# Altium footprint library CONNECTOR.PcbLib: 21 footprints (part 1 of 2)
Each footprint in its own frame and in the unit in brackets; x right, y up, seen from the top. Pads: shape width x height; smd on the part's side, far side on the other; paste and mask are expansions set on the pad; w line width, h text height; cw(c..) or ccw(c..) is an arc to the next point about the centre after c.
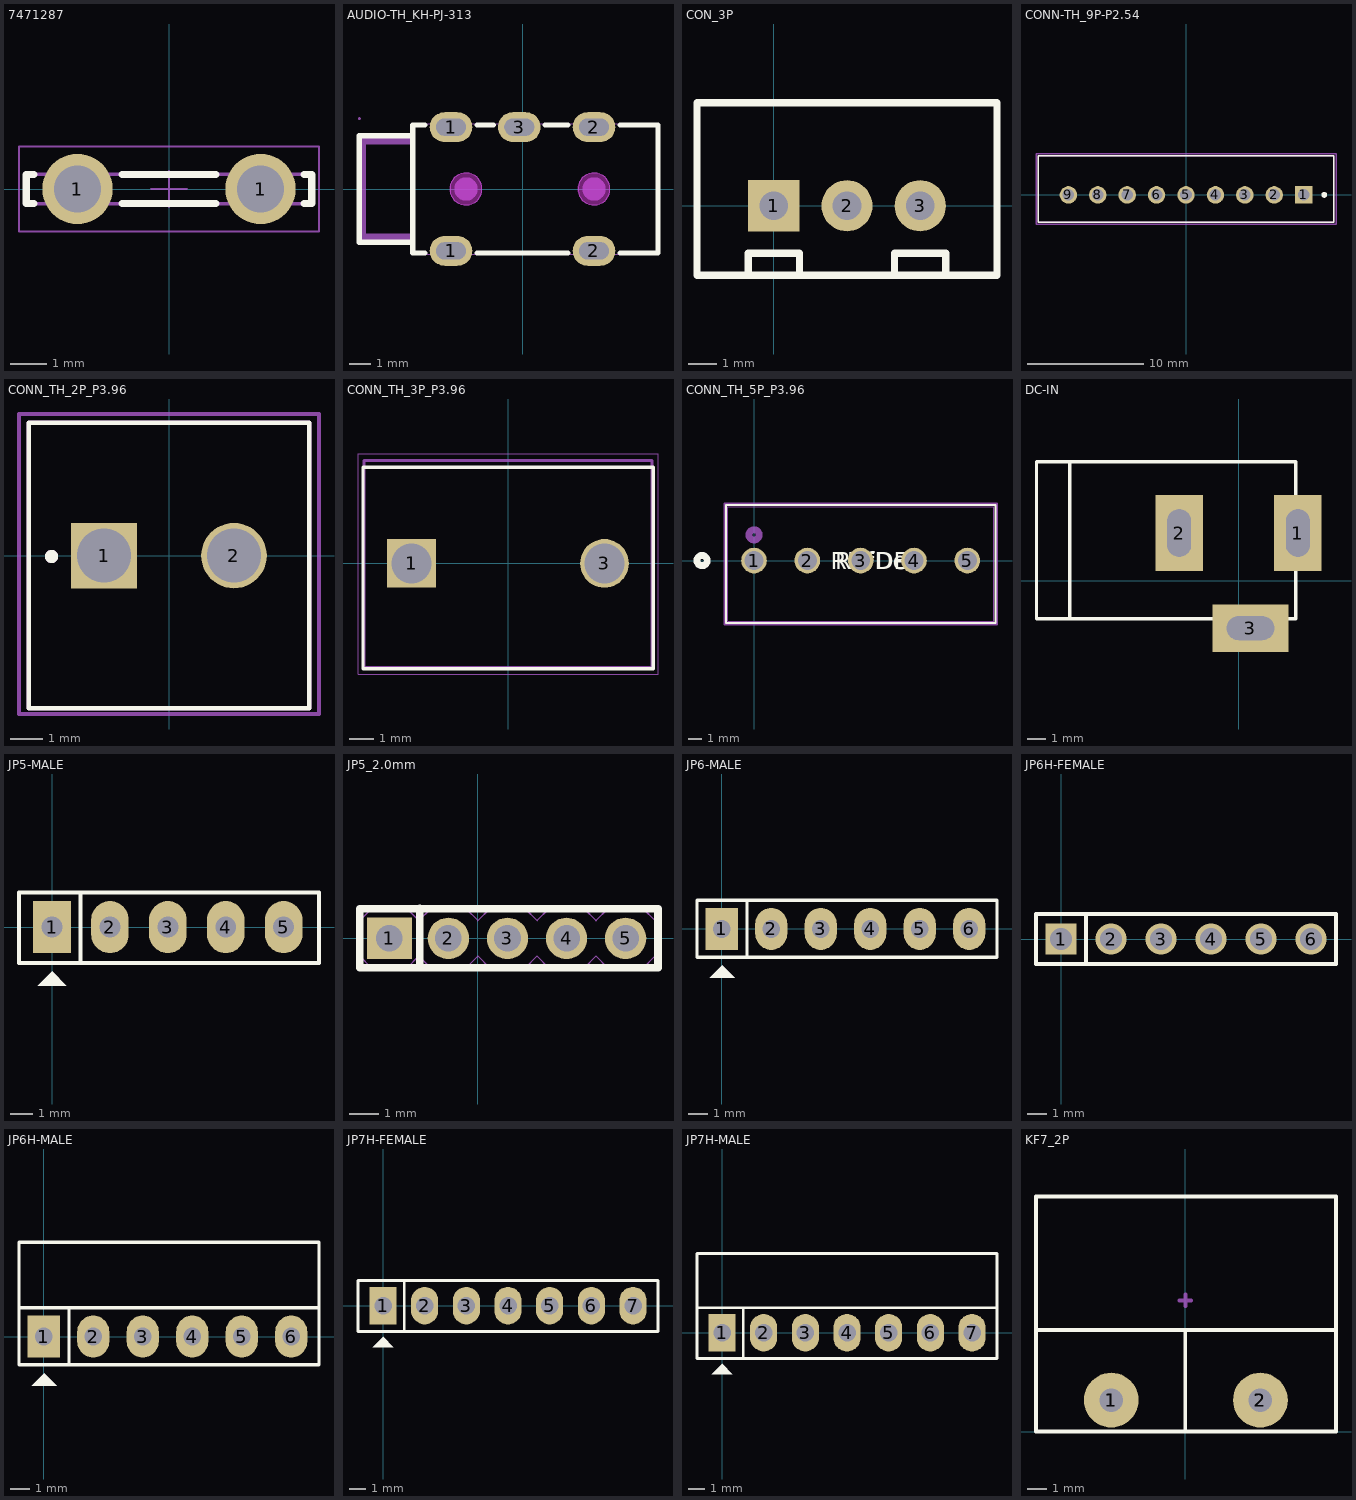
[diagram p0: the footprints below, top view; thin cyan lines are the x and y axes]

## 7471287 [mm] "Mounting Tabs & Tubular Cable Lugs"
height 10.21
pads (2):
  round 1.95 hole 1.3: 1(-2.54,0) 1(2.54,0)
Top Overlay:
  lines w0.2: -3.75,-0.405 -3.96,-0.405 -3.96,0.405 -3.75,0.405 ; -1.3,-0.405 1.3,-0.405 ; -1.3,0.405 1.3,0.405 ; 3.75,-0.405 3.96,-0.405 3.96,0.405 3.75,0.405
Mechanical 13:
  lines w0.1: -3.96,-0.405 3.96,-0.405 3.96,0.405 -3.96,0.405 -3.96,-0.405
Mechanical 15:
  lines w0.05: -0.5,0 0.5,0 ; 0,-0.5 0,0.5 ; -4.16,-1.175 -4.16,1.175 4.16,1.175 4.16,-1.175 -4.16,-1.175
  lines w0.1: -3.96,-0.405 -3.96,0.405 3.96,0.405 3.96,-0.405 -3.96,-0.405
Mechanical 29:
  text "'.Designator'" at -2.832,-0.208 h0.5
3D body "7471287.stp": height 10.27, standoff -3.75, extent -3.96,-0.405 3.96,0.405

## AUDIO-TH_KH-PJ-313 [mm]
pads (5):
  oval 2x1.4 hole 0.8 slot 1.4 at 0 deg: 1(-3.35,-2.9) 1(-3.35,2.9) 2(3.35,-2.9) 2(3.35,2.9) 3(-0.15,2.9)
Top Overlay:
  lines w0.254: -5.15,2.487 -5.15,2.5 -7.65,2.5 -7.65,-2.5 -5.15,-2.5 ; -4.569,-3 -5.15,-3 -5.15,-2.5 ; -4.569,3 -5.15,3 -5.15,-2.5 ; -2.131,-3 2.131,-3 ; -2.131,3 -1.369,3 ; 1.069,3 2.131,3 ; 4.569,-3 6.349,-3 6.349,3 6.001,3 ; 4.569,3 6,3
Keep-Out Layer:
  board cut-out: 4.1,0 4.1,-0.099 4.049,-0.289 3.95,-0.46 3.811,-0.6 3.639,-0.699 3.449,-0.75 3.251,-0.75 3.061,-0.699 2.889,-0.6 2.75,-0.46 2.651,-0.289 2.6,-0.099 2.6,0 2.6,0.099 2.651,0.29 2.75,0.461 2.889,0.6 3.061,0.699 3.251,0.75 3.449,0.75 3.639,0.699 3.811,0.6 3.95,0.461 4.049,0.29 4.1,0.099
  board cut-out: -1.9,0 -1.9,-0.099 -1.951,-0.289 -2.05,-0.46 -2.189,-0.6 -2.36,-0.699 -2.551,-0.75 -2.749,-0.75 -2.939,-0.699 -3.11,-0.6 -3.25,-0.46 -3.349,-0.289 -3.4,-0.099 -3.4,0 -3.4,0.099 -3.349,0.29 -3.25,0.461 -3.11,0.6 -2.939,0.699 -2.749,0.75 -2.551,0.75 -2.36,0.699 -2.189,0.6 -2.05,0.461 -1.951,0.29 -1.9,0.099
Keep-Out Layer:
  circle w0.025: c3.35,0 r0.75
  circle w0.025: c-2.65,0 r0.75
  region: 4.1,0 4.1,-0.099 4.049,-0.289 3.95,-0.46 3.811,-0.6 3.639,-0.699 3.449,-0.75 3.251,-0.75 3.061,-0.699 2.889,-0.6 2.75,-0.46 2.651,-0.289 2.6,-0.099 2.6,0 2.6,0.099 2.651,0.29 2.75,0.461 2.889,0.6 3.061,0.699 3.251,0.75 3.449,0.75 3.639,0.699 3.811,0.6 3.95,0.461 4.049,0.29 4.1,0.099
  region: -1.9,0 -1.9,-0.099 -1.951,-0.289 -2.05,-0.46 -2.189,-0.6 -2.36,-0.699 -2.551,-0.75 -2.749,-0.75 -2.939,-0.699 -3.11,-0.6 -3.25,-0.46 -3.349,-0.289 -3.4,-0.099 -3.4,0 -3.4,0.099 -3.349,0.29 -3.25,0.461 -3.11,0.6 -2.939,0.699 -2.749,0.75 -2.551,0.75 -2.36,0.699 -2.189,0.6 -2.05,0.461 -1.951,0.29 -1.9,0.099
Mechanical 15:
  region: 0.35,3.025 0.35,2.775 -0.65,2.775 -0.65,3.025
  region: 3.85,3.025 3.85,2.775 2.85,2.775 2.85,3.025
  region: 3.85,-2.775 3.85,-3.025 2.85,-3.025 2.85,-2.775
  region: -2.85,-2.775 -2.85,-3.025 -3.85,-3.025 -3.85,-2.775
  region: -2.85,3.025 -2.85,2.775 -3.85,2.775 -3.85,3.025
  region: -7.59,3.3 -7.59,3.275 -7.625,3.24 -7.675,3.24 -7.71,3.275 -7.71,3.3 -7.71,3.325 -7.675,3.36 -7.625,3.36 -7.59,3.325
  lines w0.051: -7.65,-2.5 -7.65,2.5 -5.15,2.5 -5.15,3.05 6.35,3.05 6.35,-3.05 -5.15,-3.05 -5.15,-2.5 -7.65,-2.5
Mechanical 29:
  circle w0.55: c3.35,0 r0.275
  circle w0.55: c-2.65,0 r0.275
  circle w0.025: c3.35,0 r0.75
  circle w0.025: c-2.65,0 r0.75
  region: -5.15,2.506 -7.65,2.506 -7.65,2.5 -7.65,-2.5 -5.15,-2.5 -5.15,-2.094 -7.35,-2.094 -7.35,2.106 -5.15,2.106
  text "'.Designator'" at -7.239,-0.381 h1.52
3D body "XB-PJ35A080-F05J1BR-C.stp": height 6.4, standoff -0.4, extent -7.642,-3.524 6.958,3.27

## CON_3P [mil]
pads (3):
  rect 70x70 hole 39.37 unplated: 1(0,0)
  round 70 hole 39.37 unplated: 2(100,0) 3(200,0)
Top Overlay:
  lines w10: -35,-95 -35,-65 35,-65 35,-95 ; 165,-95 165,-65 235,-65 235,-95 ; -105,-95 305,-95 305,141 -105,141 -105,-95
Mechanical 15:
  lines w2.01: -35,-95 -35,-65 35,-65 35,-95 ; 165,-95 165,-65 235,-65 235,-95 ; -105,-95 305,-95 305,141 -105,141 -105,-95
Mechanical 29:
  text "'.Designator'" at -65,4.99 h60
3D body "User Library-PW10-XX-M whitePW10-3M.STEP": height 275.59, standoff -129.92, extent -96.85,-90 296.85,134.41

## CONN-TH_9P-P2.54 [mm]
height 7
pads (9):
  rect 1.508x1.508 / inner round 1.508 / far side rect 1.508x1.508 hole 1: 1(10.16,0)
  round 1.508 hole 1: 2(7.62,0) 3(5.08,0) 4(2.54,0) 5(0,0) 6(-2.54,0) 7(-5.08,0) 8(-7.62,0) 9(-10.16,0)
Top Overlay:
  circle w0.254: c11.938,0 r0.127
  lines w0.127: -12.776,-2.35 12.776,-2.35 12.776,3.378 -12.776,3.378 -12.776,-2.35
Mechanical 15:
  lines w0.127: -12.776,-2.35 12.776,-2.35 12.776,3.378 -12.776,3.378 -12.776,-2.35
Mechanical 29:
  circle w0.254: c10.16,0 r0.127
  lines w0.127: -12.954,-2.54 -12.954,3.556 12.954,3.556 12.954,-2.54 -12.954,-2.54
  text "'.Designator'" at -0.316,0.586 h1.6
3D body "CONNECTOR BLUE JST XH 9 PIN - 2,54 mm.stp": height 7.01, standoff -2.99, extent -12.79,-2.347 12.79,3.383

## CONN_TH_2P_P3.96 [mm]
height 13.5
pads (2):
  rect 2x2 hole 1.65: 1(-1.98,0)
  round 2 hole 1.65: 2(1.98,0)
Top Overlay:
  circle w0.2: c-3.581,-0.025 r0.1
  lines w0.127: -4.275,-4.65 4.275,-4.65 4.275,4.05 -4.275,4.05 -4.275,-4.65
Mechanical 13:
  circle w0.2: c-3.581,-0.025 r0.1
Mechanical 15:
  lines w0.127: -4.275,-4.65 4.275,-4.65 4.275,4.05 -4.275,4.05 -4.275,-4.65
Mechanical 29:
  lines w0.127: -4.572,-4.826 -4.572,4.318 4.572,4.318 4.572,-4.826 -4.572,-4.826
  text "'.Designator'" at 0.717,-2.676 h1.6
3D body "JST - VH - Thru (V) - 2Pin - 3.96mm.stp": height 10.36, standoff -3.96, extent -4.277,-4.648 4.278,4.039

## CONN_TH_3P_P3.96 [mm]
pads (2):
  rect 2x2 hole 1.65: 1(-3.96,0)
  round 2 hole 1.65: 3(3.96,0)
Top Overlay:
  circle w0.2: c-3.969,0 r0.1
  lines w0.127: -5.96,-4.325 5.965,-4.325 5.965,3.95 -5.96,3.95 -5.96,-4.325
Mechanical 15:
  circle w0.2: c-3.969,0 r0.1
  lines w0.127: -5.91,-4.275 5.91,-4.275 5.91,4.225 -5.91,4.225 -5.91,-4.275
Mechanical 29:
  lines w0.05: -6.16,-4.55 6.16,-4.55 6.16,4.5 -6.16,4.5 -6.16,-4.55
  text "'.Designator'" at -0.963,-0.436 h1.6
3D body "1-1318301-2.stp": height 10.71, standoff -3.69, extent -5.91,-4.28 5.91,4.22

## CONN_TH_5P_P3.96 [mil]
pads (5):
  round 75 / inner round 60 / far side round 75 hole 55 paste-37.5 mask+0: 1(0,0) 2(155.91,0) 3(311.81,0) 4(467.72,0) 5(623.62,0)
Top Overlay:
  circle w20: c-151.69,0 r15
  lines w6: -81.69,-182.52 -81.69,162.48 705.31,162.48 705.31,-182.52 -81.69,-182.52
  text "REFDES" at 224.31,-25 h50
  text "RefDes" at 236.81,-25 h50
Bottom Overlay:
  circle w20: c-151.69,0 r15
Mechanical 15:
  lines w6: -86.69,-187.52 710.31,-187.52 710.31,167.48 -86.69,167.48 -86.69,-187.52
Mechanical 29:
  circle w20: c0,75 r15
  lines w1: -76.69,-177.52 -76.69,157.48 700.31,157.48 700.31,-177.52 -76.69,-177.52
  text "'.Designator'" at 42,-28.01 h60
3D body "B5P-VH.STEP": height 429.13, standoff -145.67, extent -75.58,-177.97 701.59,156.68

## DC-IN [mil] "Jac DC input"
height 200
pads (3):
  rect 100x160 hole 50 slot 100 at 90 deg: 1(125,100) 2(-125,100)
  rect 160x100 hole 50 slot 100 at 0 deg: 3(25,-100)
Top Overlay:
  lines w7: -355,-80 -355,250 ; -425,-80 -425,250 120,250 120,-80 -425,-80
Mechanical 15:
  lines w2.01: -426,-80 120,-80 120,250 -426,250 -426,-80
Mechanical 29:
  text "'.Designator'" at -365,104.99 h60
3D body "SW3dPS-dc range - dc connector[4840.2201].STEP": height 433.67, standoff -137.2, extent -410.35,-105.12 134,269.12

## JP5-MALE [mil] "JP5"
height 200
pads (5):
  rect 65x90 hole 36: 1(0,0)
  oval 65x90 hole 36: 2(100,0) 3(200,0) 4(300,0) 5(400,0)
Top Overlay:
  region: 0,-76 -25,-101 25,-101
  lines w7: 49,-60 49,58 ; -57,-62 461,-62 461,60 -57,60 -57,-62
Mechanical 29:
  text "'.Designator'" at -15,-21.01 h60
3D body "JP1-5.stp": height 323.43, standoff -117.51, extent -48.03,-53.43 448.03,45

## JP5_2.0mm [mm]
pads (5):
  rect 1.524x1.4 hole 0.9: 1(-3,0)
  round 1.4 hole 0.9: 2(-1,0) 3(1,0) 4(3,0) 5(5,0)
Top Overlay:
  lines w0.254: -1.969,-0.889 -1.969,1.016 ; -4,-1 -4,1 6.096,1 6.096,-1 -4,-1
Mechanical 15:
  region: 2.75,0.25 3.25,0.25 3.25,-0.25 2.75,-0.25
  region: 0.75,0.25 1.25,0.25 1.25,-0.25 0.75,-0.25
  region: -1.25,0.25 -0.75,0.25 -0.75,-0.25 -1.25,-0.25
  region: -3.25,0.25 -2.75,0.25 -2.75,-0.25 -3.25,-0.25
  region: -3.94,-1 -3.94,-1.025 -3.975,-1.06 -4.025,-1.06 -4.06,-1.025 -4.06,-1 -4.06,-0.975 -4.025,-0.94 -3.975,-0.94 -3.94,-0.975
  region: 4.754,0.254 5.254,0.254 5.254,-0.246 4.754,-0.246
  lines w0.051: 3.994,-0.6 4.394,-1 5.594,-1 5.994,-0.6 5.994,0.6 5.594,1 4.394,1 3.994,0.6 ; 4,-0.6 3.6,-1 2.4,-1 2,-0.6 1.6,-1 0.4,-1 0,-0.6 -0.4,-1 -1.6,-1 -2,-0.6 -2.4,-1 -3.6,-1 -4,-0.6 -4,0.6 -3.6,1 -2.4,1 -2,0.6 -1.6,1 -0.4,1 0,0.6 0.4,1 1.6,1 2,0.6 2.4,1 3.6,1 4,0.6
Mechanical 29:
  text "'.Designator'" at -4.064,-0.661 h1.52
3D body "pin_header_a-sl200-eg-g02d.stp": height 7, standoff -1.8, extent 2.013,-1 5.963,1
3D body "pin_header_a-sl200-eg-g02d.stp": height 7, standoff -1.8, extent 0.006,-1.026 3.956,0.974
3D body "pin_header_a-sl200-eg-g02d.stp": height 7, standoff -1.8, extent -3.956,-1.026 -0.006,0.974

## JP6-MALE [mil] "JP6"
height 200
pads (6):
  rect 65x85 hole 36: 1(0,0)
  oval 65x85 hole 36: 2(100,0) 3(200,0) 4(300,0) 5(400,0) 6(500,0)
Top Overlay:
  region: 1,-74 -24,-99 26,-99
  lines w7: 51,-57 51,56 ; -50,-57 556,-57 556,58 -50,58 -50,-57
Mechanical 29:
  text "'.Designator'" at 33,-17.01 h60
3D body "JP1-6.stp": height 323.43, standoff -117.51, extent -48.03,-50 548.03,48.43

## JP6H-FEMALE [mm] "6 pins, 1 row, straight, gold plating"
height 8.54
pads (6):
  rect 1.6x1.6 hole 1.1: 1(0,0)
  round 1.6 hole 1.1: 2(2.54,0) 3(5.08,0) 4(7.62,0) 5(10.16,0) 6(12.7,0)
Top Overlay:
  lines w0.2: 1.27,-1.27 1.27,1.27 ; -1.27,-1.27 13.97,-1.27 13.97,1.27 -1.27,1.27 -1.27,-1.27
Mechanical 29:
  text "'.Designator'" at -1.016,-0.635 h1.52

## JP6H-MALE [mil]
pads (6):
  rect 65x85 hole 36: 1(0,0)
  oval 65x85 hole 36: 2(100,0) 3(200,0) 4(300,0) 5(400,0) 6(500,0)
Top Overlay:
  region: 1,-74 -24,-99 26,-99
  lines w7: 51,-57 51,56 ; -50,58 -50,190 556,190 556,58 ; -50,58 556,58 ; -50,58 -50,-57 556,-57 556,58
Mechanical 29:
  text "'.Designator'" at 0,24.99 h60
3D body "JP6H.stp": height 99.03, standoff -93.89, extent -46.06,-14.96 546.07,423.63

## JP7H-FEMALE [mil]
pads (7):
  rect 65x90 hole 42: 1(0,0)
  oval 65x90 hole 42: 2(100,0) 3(200,0) 4(300,0) 5(400,0) 6(500,0) 7(600,0)
Top Overlay:
  region: 0,-75 -25,-100 25,-100
  lines w7: -57,60 660,60 660,-62 -60,-62 -60,60 -50,60 ; 51,-58 51,60
Mechanical 29:
  text "'.Designator'" at 29,-20.01 h60

## JP7H-MALE [mil]
pads (7):
  rect 65x90 hole 42: 1(0,0)
  oval 65x90 hole 42: 2(100,0) 3(200,0) 4(300,0) 5(400,0) 6(500,0) 7(600,0)
Top Overlay:
  region: 0,-75 -25,-100 25,-100
  lines w7: -57,60 660,60 ; -50,60 -60,60 ; 51,-58 51,60 ; -60,60 -60,190 660,190 660,60 ; -60,60 -60,-62 660,-62 660,60
Mechanical 29:
  text "'.Designator'" at 28,46.99 h60
3D body "JP7H.stp": height 99.03, standoff -93.89, extent -46.06,-24.96 646.07,413.63

## KF7_2P [mm]
pads (8):
  round 2.794 hole 1.2: 1(-3.78,1.6) 1(-3.78,1.6) 1(-3.78,1.615) 1(-3.78,1.615) 2(3.84,1.6) 2(3.84,1.6) 2(3.84,1.615) 2(3.84,1.615)
Top Overlay:
  lines w0.2: -7.62,5.2 7.62,5.2 ; 0,0.015 0,5.19 ; -7.62,0.015 -7.62,12 7.7,12 7.7,0.015 -7.62,0.015
Mechanical 15:
  lines w0.2: -0.29,6.705 0.295,6.705 ; 0.01,6.405 0.01,7.005
Mechanical 29:
  text "'.Designator'" at -7.106,5.872 h1.52
3D body "KF7_62-2P.STEP": height 12.41, standoff -6.29, extent -7.58,-0.03 7.66,11.97